# Altium footprint library CONN_5X_68000-105HTLF.PcbLib: 1 footprints
Each footprint in its own frame and in the unit in brackets; x right, y up, seen from the top. Pads: shape width x height; smd on the part's side, far side on the other; paste and mask are expansions set on the pad; w line width, h text height; cw(c..) or ccw(c..) is an arc to the next point about the centre after c.
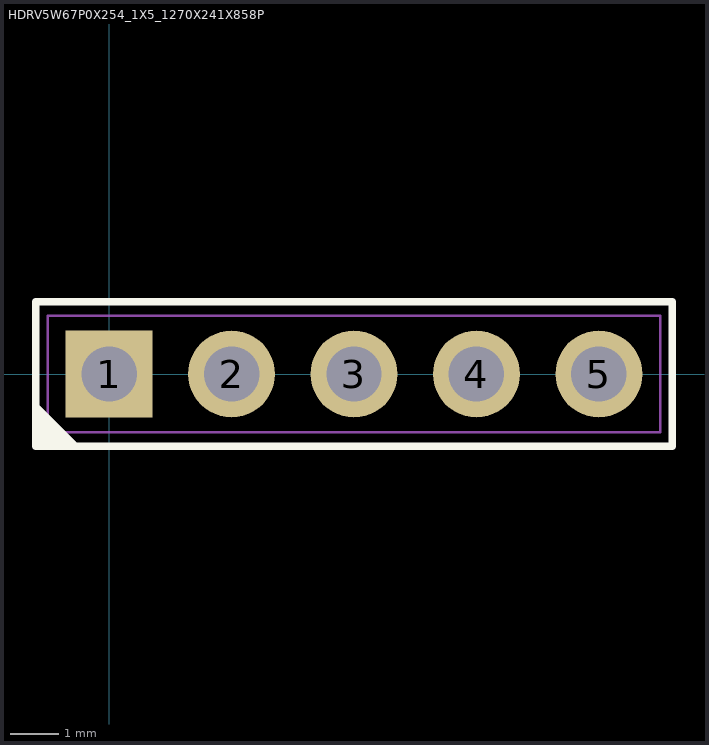
[diagram p0: the footprint, top view; thin cyan lines are the x and y axes]

## HDRV5W67P0X254_1X5_1270X241X858P [mm]
pads (5):
  rect 1.8x1.8 hole 1.15: 1(0,0)
  round 1.8 hole 1.15: 2(2.54,0) 3(5.08,0) 4(7.62,0) 5(10.16,0)
Top Overlay:
  region: -1.52,-1.5 -1.5,-1.48 -1.5,-0.6 -0.6,-1.5
  lines w0.15: -1.52,-1.5 11.68,-1.5 11.68,1.5 -1.52,1.5 -1.52,-1.5
Top Assembly:
  lines w0.05: -1.27,-1.205 11.43,-1.205 11.43,1.205 -1.27,1.205 -1.27,-1.205
  text ".designator" at 0.082,-0.333 h1
Top Courtyard:
  lines w0.05: -1.52,-1.5 11.68,-1.5 11.68,1.5 -1.52,1.5 -1.52,-1.5
  lines w0.1: 4.58,0 5.58,0 ; 5.08,-0.5 5.08,0.5
3D body "68000-105HTLF.stp": height 8.58, standoff -2.66, extent -1.27,-1.205 11.43,1.205